# Altium footprint library MMSZ4678T1G.PcbLib: 3 footprints
Each footprint in its own frame and in the unit in brackets; x right, y up, seen from the top. Pads: shape width x height; smd on the part's side, far side on the other; paste and mask are expansions set on the pad; w line width, h text height; cw(c..) or ccw(c..) is an arc to the next point about the centre after c.
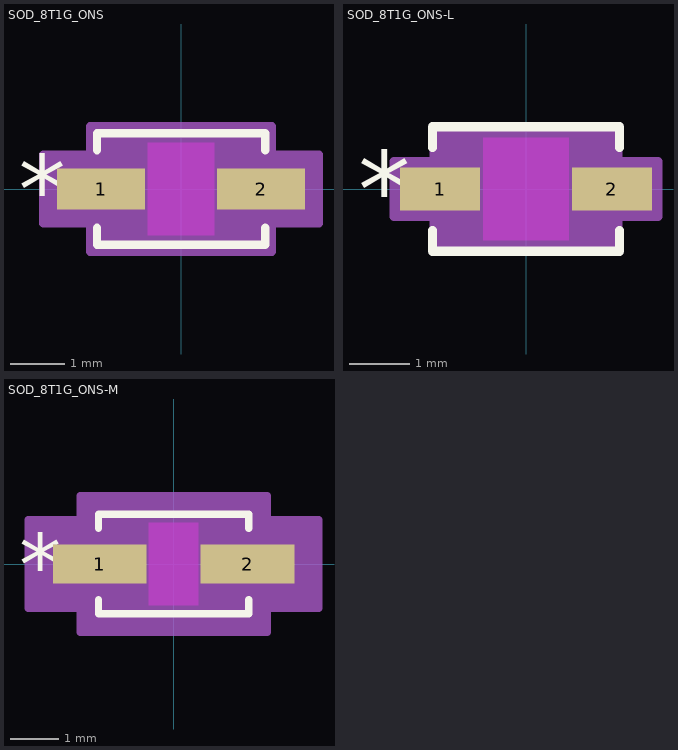
[diagram p0: the footprints below, top view; thin cyan lines are the x and y axes]

## SOD_8T1G_ONS [mil]
pads (2):
  rect 64x30 smd paste+0 mask+0: 1(-58,0) 2(58,0)
Top Overlay:
  lines w6: -61,-28.1 -61,-40.5 61,-40.5 61,-28.1 ; -61,28.1 -61,40.5 61,40.5 61,28.1
  text "*" at -117.5,-25 h50
Keep-Out Layer:
  region: -24,-33.5 -24,33.5 24,33.5 24,-33.5
Mechanical 13:
  lines w1: -56,-17.75 -38.25,-35.5 ; -56,17.75 -38.25,35.5 ; -76,-14 -76,14 -56,14 -56,-14 -76,-14 ; -56,-35.5 56,-35.5 56,35.5 -56,35.5 -56,-35.5 ; 56,-14 56,14 76,14 76,-14 56,-14
  text "*" at -58.5,-25 h50
Mechanical 15:
  region: -66,-25 -100,-25 -100,25 -66,25 -66,45.5 66,45.5 66,25 100,25 100,-25 66,-25 66,-45.5 -66,-45.5
  lines w6: -100,-25 -100,25 -66,25 -66,45.5 66,45.5 66,25 100,25 100,-25 66,-25 66,-45.5 -66,-45.5 -66,-25 -100,-25
3D body "SOD_8T1G_ONS.step": height 53.11, standoff 0, extent -75.98,-35.51 75.98,35.51

## SOD_8T1G_ONS-L [mil]
pads (2):
  rect 52x28 smd paste+0 mask+0: 1(-56,0) 2(56,0)
Top Overlay:
  lines w6: -61,-27.1 -61,-40.5 61,-40.5 61,-27.1 ; -61,27.1 -61,40.5 61,40.5 61,27.1
  text "*" at -109.5,-25 h50
Keep-Out Layer:
  region: -28,-33.5 -28,33.5 28,33.5 28,-33.5
Mechanical 13:
  lines w1: -56,-17.75 -38.25,-35.5 ; -56,17.75 -38.25,35.5 ; -76,-14 -76,14 -56,14 -56,-14 -76,-14 ; -56,-35.5 56,-35.5 56,35.5 -56,35.5 -56,-35.5 ; 56,-14 56,14 76,14 76,-14 56,-14
  text "*" at -58.5,-25 h50
Mechanical 15:
  region: -60,-18 -86,-18 -86,18 -60,18 -60,39.5 60,39.5 60,18 86,18 86,-18 60,-18 60,-39.5 -60,-39.5
  lines w6: -86,-18 -86,18 -60,18 -60,39.5 60,39.5 60,18 86,18 86,-18 60,-18 60,-39.5 -60,-39.5 -60,-18 -86,-18
3D body "SOD_8T1G_ONS.step": height 53.11, standoff 0, extent -75.98,-35.51 75.98,35.51

## SOD_8T1G_ONS-M [mil]
pads (2):
  rect 76x32 smd paste+0 mask+0: 1(-60,0) 2(60,0)
Top Overlay:
  lines w6: -61,-29.1 -61,-40.5 61,-40.5 61,-29.1 ; -61,29.1 -61,40.5 61,40.5 61,29.1
  text "*" at -125.5,-25 h50
Keep-Out Layer:
  region: -20,-33.5 -20,33.5 20,33.5 20,-33.5
Mechanical 13:
  lines w1: -56,-17.75 -38.25,-35.5 ; -56,17.75 -38.25,35.5 ; -76,-14 -76,14 -56,14 -56,-14 -76,-14 ; -56,-35.5 56,-35.5 56,35.5 -56,35.5 -56,-35.5 ; 56,-14 56,14 76,14 76,-14 56,-14
  text "*" at -58.5,-25 h50
Mechanical 15:
  region: -76,-36 -118,-36 -118,36 -76,36 -76,55.5 76,55.5 76,36 118,36 118,-36 76,-36 76,-55.5 -76,-55.5
  lines w6: -118,-36 -118,36 -76,36 -76,55.5 76,55.5 76,36 118,36 118,-36 76,-36 76,-55.5 -76,-55.5 -76,-36 -118,-36
3D body "SOD_8T1G_ONS.step": height 53.11, standoff 0, extent -75.98,-35.51 75.98,35.51